# EAGLE library part CON_IGREPLANE_SOCKET (library igreplane)
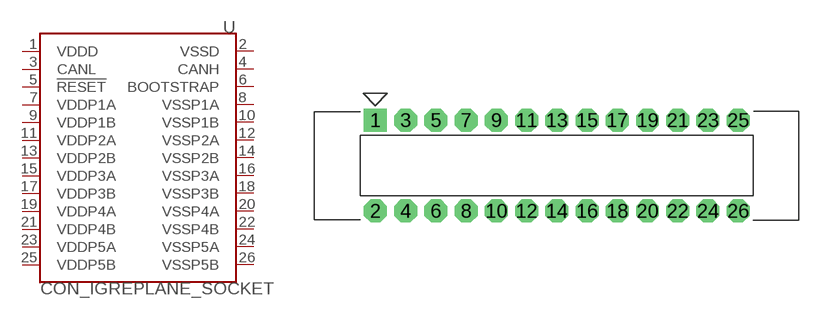
[diagram p0: symbol with the pads of CON_WURTH_6130_26_216921; footprint CON_WURTH_6130_26_216921]

Designator prefix -

## CON_IGREPLANE_SOCKET  [CON_WURTH_6130_26_216921]
1  VDDD  pwr
2  VSSD  pwr
3  CANL
4  CANH
5  !RESET!
6  BOOTSTRAP
7  VDDP1A  pwr
8  VSSP1A  pwr
9  VDDP1B  pwr
10  VSSP1B  pwr
11  VDDP2A  pwr
12  VSSP2A  pwr
13  VDDP2B  pwr
14  VSSP2B  pwr
15  VDDP3A  pwr
16  VSSP3A  pwr
17  VDDP3B  pwr
18  VSSP3B  pwr
19  VDDP4A  pwr
20  VSSP4A  pwr
21  VDDP4B  pwr
22  VSSP4B  pwr
23  VDDP5A  pwr
24  VSSP5A  pwr
25  VDDP5B  pwr
26  VSSP5B  pwr

## Footprint CON_WURTH_6130_26_216921 (pad centres in mm)
drill 1 pad 1.93 square: 1 -15.24,3.81
drill 1 pad 1.93 octagon: 2 -15.24,-3.81; 3 -12.7,3.81; 4 -12.7,-3.81; 5 -10.16,3.81; 6 -10.16,-3.81; 7 -7.62,3.81; 8 -7.62,-3.81; 9 -5.08,3.81; 10 -5.08,-3.81; 11 -2.54,3.81; 12 -2.54,-3.81; 13 0,3.81; 14 0,-3.81; 15 2.54,3.81; 16 2.54,-3.81; 17 5.08,3.81; 18 5.08,-3.81; 19 7.62,3.81; 20 7.62,-3.81; 21 10.16,3.81; 22 10.16,-3.81; 23 12.7,3.81; 24 12.7,-3.81; 25 15.24,3.81; 26 15.24,-3.81